# Altium footprint library PCB5_GND.PcbLib: 7 footprints
Each footprint in its own frame and in the unit in brackets; x right, y up, seen from the top. Pads: shape width x height; smd on the part's side, far side on the other; paste and mask are expansions set on the pad; w line width, h text height; cw(c..) or ccw(c..) is an arc to the next point about the centre after c.
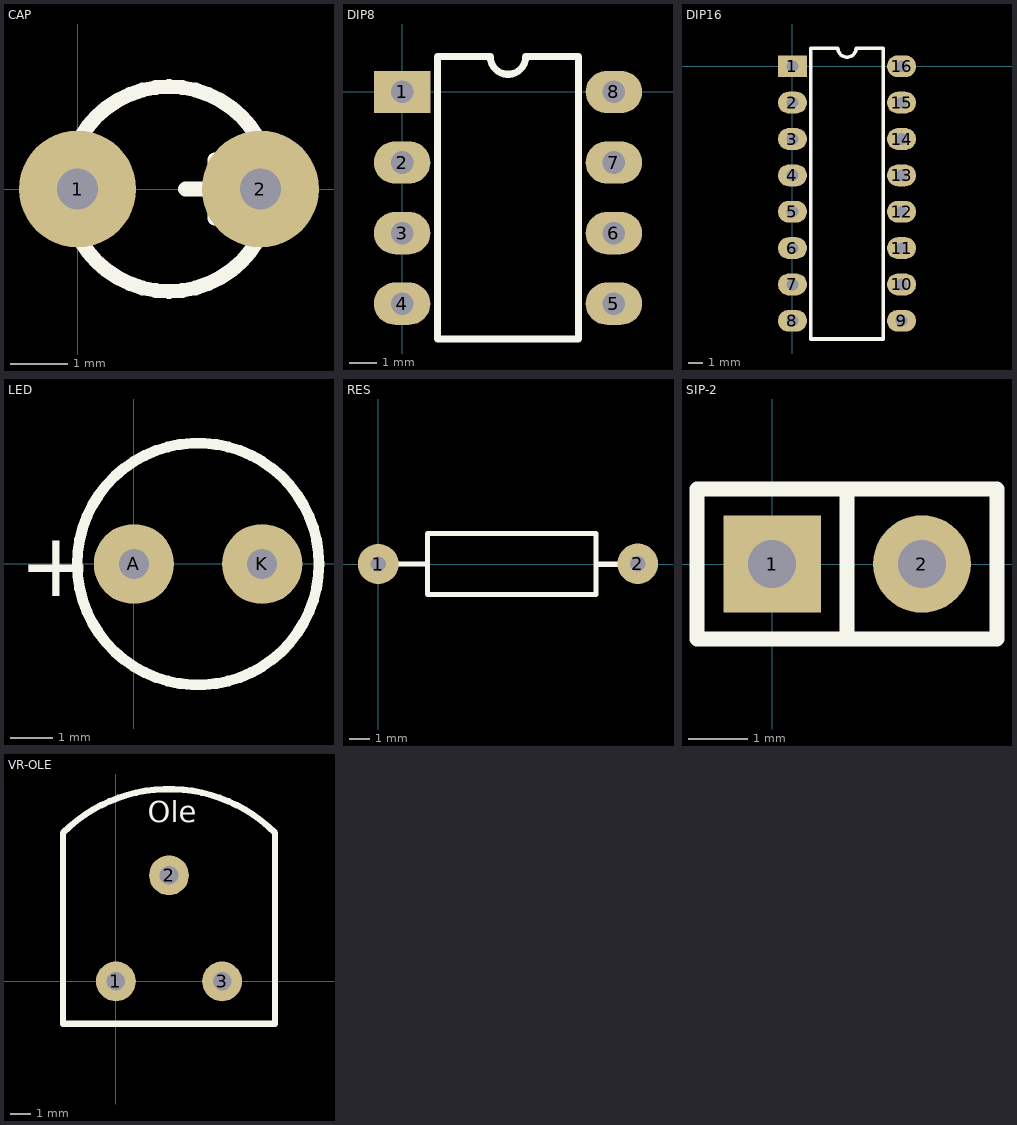
[diagram p0: the footprints below, top view; thin cyan lines are the x and y axes]

## CAP [mil]
pads (2):
  round 80 hole 28: 1(0,0) 2(125,0)
Top Overlay:
  circle w10: c62.5,0 r70
  lines w10: 73.75,0 113.75,0 ; 93.75,-20 93.75,20

## DIP8 [mil]
pads (8):
  rect 80x60 hole 32: 1(0,0)
  oval 80x60 hole 32: 2(0,-100) 3(0,-200) 4(0,-300) 5(300,-300) 6(300,-200) 7(300,-100) 8(300,0)
Top Overlay:
  lines w10: 50,-350 50,50 125,50 ccw(c150,50) 175,50 250,50 250,-350 50,-350

## DIP16 [mil]
pads (16):
  rect 80x60 hole 32: 1(0,0)
  oval 80x60 hole 32: 2(0,-100) 3(0,-200) 4(0,-300) 5(0,-400) 6(0,-500) 7(0,-600) 8(0,-700) 9(300,-700) 10(300,-600) 11(300,-500) 12(300,-400) 13(300,-300) 14(300,-200) 15(300,-100) 16(300,0)
Top Overlay:
  lines w10: 50,-750 250,-750 250,50 175,50 cw(c150,50) 125,50 50,50 50,-750

## LED [mil]
pads (2):
  round 75 hole 28: A(0,0) K(120,0)
Top Overlay:
  circle w10: c60,0 r113.14
  text "+" at -107.5,-30 h60

## RES [mil]
pads (2):
  round 80 hole 30: 1(0,0) 2(512,0.5)
Top Overlay:
  lines w10: 0,0 97,0 ; 430,-0.5 510.5,-0.5 ; 97,-60 97,60 430,60 430,-60 97,-60

## SIP-2 [mil]
pads (2):
  rect 65x65 hole 32: 1(0,0)
  round 65 hole 32: 2(100,0)
Top Overlay:
  lines w10: 50,-50 50,50 ; -50,-50 -50,50 150,50 150,-50 -50,-50

## VR-OLE [mil]
pads (3):
  round 75 hole 35: 1(0,0) 2(100,200) 3(200,0)
Top Overlay:
  lines w12: -100,-80 300,-80 300,280 ccw(c100,80) -100,280 -100,-80
  text "Ole" at 60,300 h40